# Altium footprint library WDX-DIY-PCB.PCBLIB: 138 footprints (part 1 of 9)
Each footprint in its own frame and in the unit in brackets; x right, y up, seen from the top. Pads: shape width x height; smd on the part's side, far side on the other; paste and mask are expansions set on the pad; w line width, h text height; cw(c..) or ccw(c..) is an arc to the next point about the centre after c.
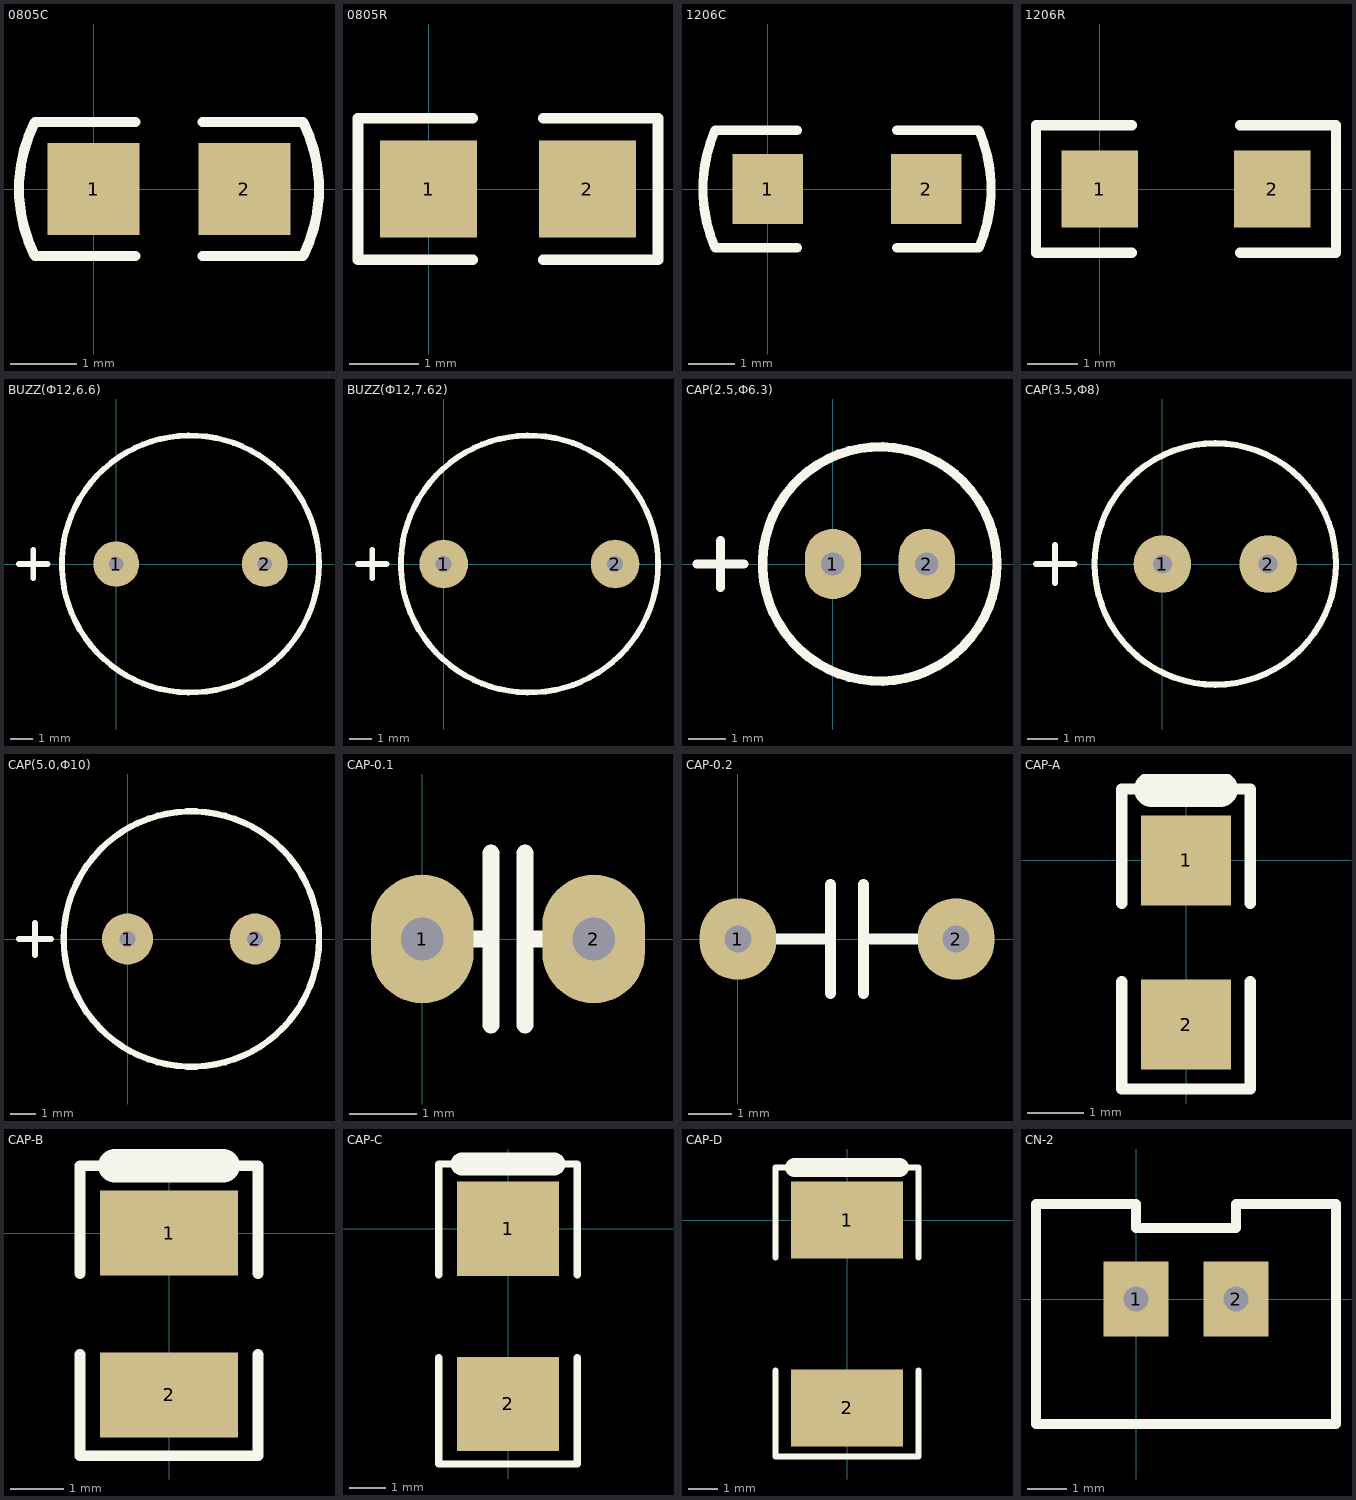
[diagram p0: the footprints below, top view; thin cyan lines are the x and y axes]

## 0805C [mil]
pads (2):
  rect 55x55 smd: 1(0,0) 2(90,0)
TopOverlay:
  lines w6: 25,-40 -35,-40 cw(c45,0) -35,40 25,40 ; 65,-40 125,-40 ccw(c45,0) 125,40 65,40

## 0805R [mil]
pads (2):
  rect 55x55 smd: 1(0,0) 2(90,0)
TopOverlay:
  lines w6: 25,-40 -40,-40 -40,40 25,40 ; 65,-40 130,-40 130,40 65,40

## 1206C [mil]
pads (2):
  rect 60x60 smd: 1(0,0) 2(135,0)
TopOverlay:
  lines w8: 25,-50 -45,-50 cw(c70,0) -45,50 25,50 ; 110,-50 180,-50 ccw(c65,0) 180,50 110,50

## 1206R [mil]
pads (2):
  rect 60x60 smd: 1(0,0) 2(135,0)
TopOverlay:
  lines w8: 25,-50 -50,-50 -50,50 25,50 ; 110,-50 185,-50 185,50 110,50

## BUZZ(Ф12,6.6) [mil]
pads (2):
  round 80 hole 25: 1(0,0) 2(260,0)
TopOverlay:
  circle w10: c130,0 r225
  lines w10: -170,0 -120,0 ; -145,-25 -145,25

## BUZZ(Ф12,7.62) [mil]
pads (2):
  round 85 hole 28: 1(0,0) 2(300,0)
TopOverlay:
  circle w10: c150,0 r225
  lines w10: -150,0 -100,0 ; -125,-25 -125,25

## CAP(2.5,Ф6.3) [mil]
pads (2):
  oval 60x75 hole 25: 1(0,0) 2(100,0)
TopOverlay:
  circle w10: c50,0 r125
  lines w10: -145,0 -95,0 ; -120,-25 -120,25

## CAP(3.5,Ф8) [mm]
pads (2):
  round 1.905 hole 0.635: 1(0,0) 2(3.5,0)
TopOverlay:
  circle w0.203: c1.75,0 r4
  lines w0.203: -4.191,0 -2.921,0 ; -3.556,-0.635 -3.556,0.635

## CAP(5.0,Ф10) [mil]
pads (2):
  round 80 hole 25: 1(0,0) 2(200,0)
TopOverlay:
  circle w10: c100,0 r200
  lines w10: -170,0 -120,0 ; -145,-25 -145,25

## CAP-0.1 [mil]
pads (2):
  oval 60x75 hole 25: 1(0,0) 2(100,0)
TopOverlay:
  lines w10: 30,0 40,0 ; 40,-50 40,50 ; 60,-50 60,50 ; 60,0 70,0

## CAP-0.2 [mil]
pads (2):
  oval 70x75 hole 25: 1(0,0) 2(200,0)
TopOverlay:
  lines w10: 35,0 85,0 ; 85,-50 85,50 ; 115,-50 115,50 ; 115,0 165,0

## CAP-A [mm]
pads (2):
  rect 1.6x1.6 smd: 1(0,0) 2(0,-2.921)
TopOverlay:
  lines w0.2: -1.143,-2.159 -1.143,-4.064 1.143,-4.064 1.143,-2.159 ; -1.143,-0.762 -1.143,1.27 1.143,1.27 1.143,-0.762
  lines w0.635: -0.61,1.27 0.61,1.27

## CAP-B [mm]
pads (2):
  rect 2.6x1.6 smd: 1(0,0) 2(0,-3.048)
TopOverlay:
  lines w0.2: -1.676,-2.286 -1.676,-4.191 1.676,-4.191 1.676,-2.286 ; -1.676,-0.762 -1.676,1.27 1.676,1.27 1.676,-0.762
  lines w0.635: -1.016,1.27 1.016,1.27

## CAP-C [mm]
pads (2):
  rect 2.8x2.6 smd: 1(0,0) 2(0,-4.826)
TopOverlay:
  lines w0.2: -1.905,-3.556 -1.905,-6.477 1.905,-6.477 1.905,-3.556 ; -1.905,-1.27 -1.905,1.778 1.905,1.778 1.905,-1.27
  lines w0.635: -1.27,1.778 1.27,1.778

## CAP-D [mm]
pads (2):
  rect 3.8x2.6 smd: 1(0,0) 2(0,-6.35)
TopOverlay:
  lines w0.2: -2.413,-5.08 -2.413,-8.001 2.413,-8.001 2.413,-5.08 ; -2.413,-1.27 -2.413,1.778 ; 2.413,-1.27 2.413,1.778
  lines w0.203: -2.413,1.778 2.413,1.778
  lines w0.635: -1.778,1.778 1.778,1.778

## CN-2 [mil]
pads (2):
  rect 65x75 hole 25: 1(0,0) 2(100,0)
TopOverlay:
  lines w10: -100,-125 200,-125 200,95 100,95 100,71 0,71 0,95 -100,95 -100,-125